# EAGLE library part ESP8266-DEV (library esp_adapter)
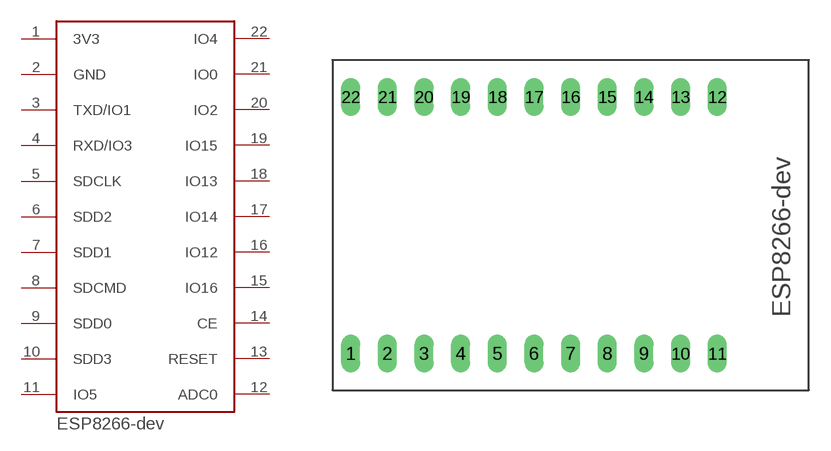
[diagram p0: symbol with the pads of ESP8266-DEV; footprint ESP8266-DEV]

Designator prefix -

## ESP8266-DEV  [ESP8266-DEV]
1  3V3
2  GND
3  TXD/IO1
4  RXD/IO3
5  SDCLK
6  SDD2
7  SDD1
8  SDCMD
9  SDD0
10  SDD3
11  IO5
12  ADC0
13  RESET
14  CE
15  IO16
16  IO12
17  IO14
18  IO13
19  IO15
20  IO2
21  IO0
22  IO4

## Footprint ESP8266-DEV (pad centres in mm)
drill 0.8 long: 1 -15.24,-8.89; 2 -12.7,-8.89; 3 -10.16,-8.89; 4 -7.62,-8.89; 5 -5.08,-8.89; 6 -2.54,-8.89; 7 0,-8.89; 8 2.54,-8.89; 9 5.08,-8.89; 10 7.62,-8.89; 11 10.16,-8.89; 12 10.16,8.89; 13 7.62,8.89; 14 5.08,8.89; 15 2.54,8.89; 16 0,8.89; 17 -2.54,8.89; 18 -5.08,8.89; 19 -7.62,8.89; 20 -10.16,8.89; 21 -12.7,8.89; 22 -15.24,8.89